# Altium footprint library PCB - DIODES - SX33L_R1_00001.PcbLib: 1 footprints
Each footprint in its own frame and in the unit in brackets; x right, y up, seen from the top. Pads: shape width x height; smd on the part's side, far side on the other; paste and mask are expansions set on the pad; w line width, h text height; cw(c..) or ccw(c..) is an arc to the next point about the centre after c.
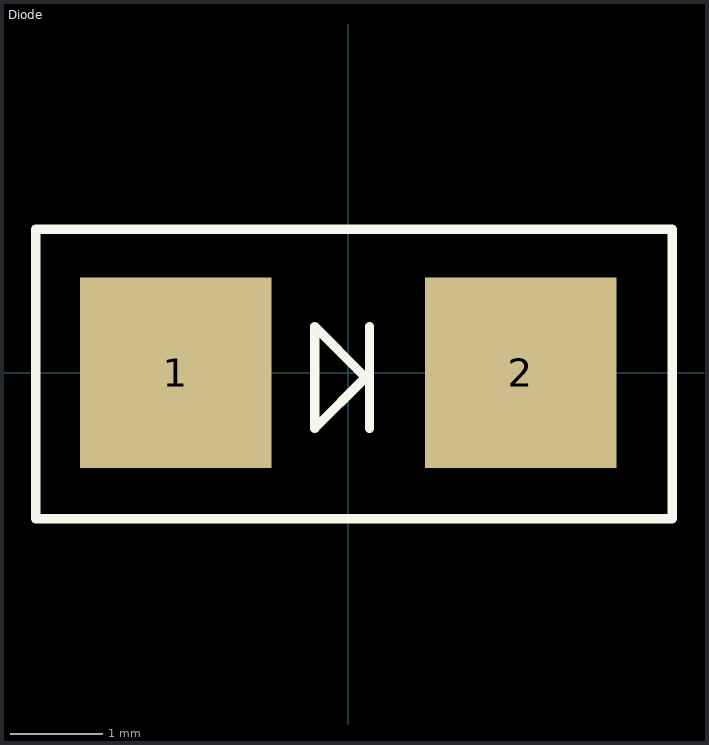
[diagram p0: the footprint, top view; thin cyan lines are the x and y axes]

## Diode [mm]
pads (2):
  rect 2.07x2.06 smd: 1(-1.862,0) 2(1.863,0)
Top Overlay:
  lines w0.1: 0.163,-0.025 -0.362,0.5 -0.362,-0.6 0.188,-0.05 ; 0.23,-0.6 0.23,0.5 ; -3.375,-1.575 3.5,-1.575 3.5,1.55 -3.375,1.55 -3.375,-1.575
3D body: height 2.44, standoff 0, extent -2.338,-1.25 2.262,1.25